# EAGLE library part UJ2-BH-W1-TH (library UJ2-BH-W1-TH)
USB Connectors USB 2.0 type B jack 4 pin Horiz White TH Source: Datasheet <https://www.cuidevices.com/product/resource/uj2-bh-th.pdf>
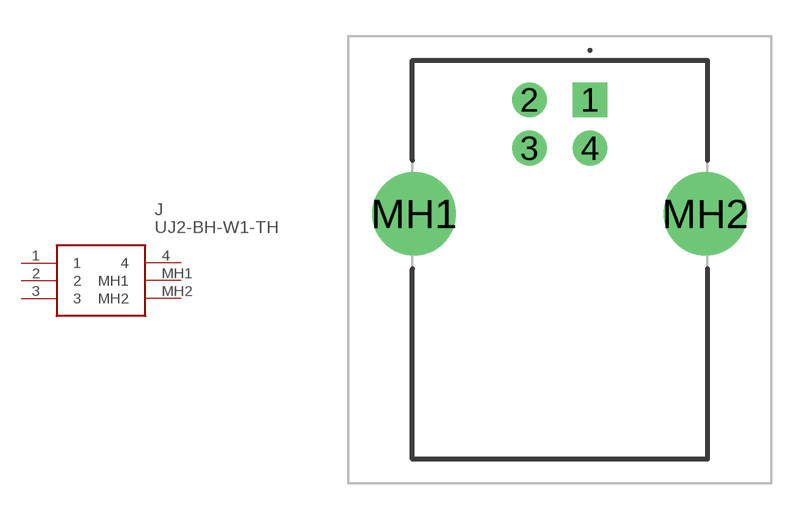
[diagram p0: symbol with the pads of UJ2BHW1TH; footprint UJ2BHW1TH]

Designator prefix J

## UJ2-BH-W1-TH (Arrow_Part_Number: UJ2-BH-W1-TH; Arrow_Price-Stock: https://www.arrow.com/en/products/uj2-bh-w1-th/cui-devices?region=nac; Description: USB Connectors USB 2.0 type B jack 4 pin Horiz White TH; Height: 11.48mm; Manufacturer_Name: CUI Inc.; Manufacturer_Part_Number: UJ2-BH-W1-TH; Mouser_Part_Number: 490-UJ2-BH-W1-TH; Mouser_Price-Stock: https://www.mouser.co.uk/ProductDetail/CUI-Devices/UJ2-BH-W1-TH?qs=5mqXD9RfOg3dpHLjDScu%2Fg%3D%3D)  [UJ2BHW1TH]
1  1
2  2
3  3
4  4
MH1  MH1
MH2  MH2

## Footprint UJ2BHW1TH (pad centres in mm)
UJ2-BH-W1-TH-2
drill 0.92 pad 1.431 square: 1 0,0
drill 0.92 pad 1.431: 2 -2.5,0; 3 -2.5,-2; 4 0,-2
drill 2.3 pad 3.45: MH1 -7.27,-4.71; MH2 4.77,-4.71